# Altium footprint library Connector Footprints.PcbLib: 66 footprints (part 5 of 5)
Each footprint in its own frame and in the unit in brackets; x right, y up, seen from the top. Pads: shape width x height; smd on the part's side, far side on the other; paste and mask are expansions set on the pad; w line width, h text height; cw(c..) or ccw(c..) is an arc to the next point about the centre after c.
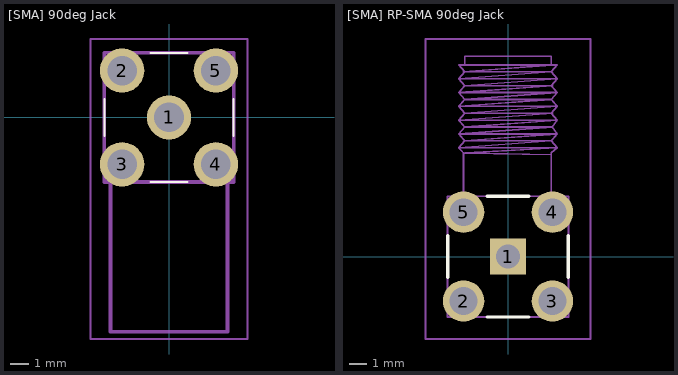
[diagram p4: the footprints below, top view; thin cyan lines are the x and y axes]

## [SMA] 90deg Jack [mm] "SMA-J-P-H-RA-TH1"
pads (5):
  round 2.4 hole 1.6: 1(0,0) 2(-2.54,2.54) 3(-2.54,-2.54) 4(2.54,-2.54) 5(2.54,2.54)
Top Overlay:
  lines w0.1: -3.5,-1 -3.5,1 ; -1,-3.5 1,-3.5 ; -1,3.5 1,3.5 ; 3.5,-1 3.5,1
Physical Drawing:
  lines w0.2: -3.165,-3.5 -3.165,-11.6 3.165,-11.6 3.165,-3.5 ; -3.5,-3.5 -3.5,3.5 3.5,3.5 3.5,-3.5 -3.5,-3.5
Part Outline:
  lines w0.1: -4.25,-12 -4.25,4.25 4.25,4.25 4.25,-12 -4.25,-12
3D body "SMA-J-P-H-RA-TH1.stp": height 9.85, standoff -3.95, extent -3.5,-11.48 3.5,3.62

## [SMA] RP-SMA 90deg Jack [mm]
pads (5):
  rect 2.1x2.1 hole 1.4: 1(0,0)
  round 2.4 hole 1.6: 2(-2.575,-2.575) 3(2.575,-2.575) 4(2.575,2.575) 5(-2.575,2.575)
Top Overlay:
  lines w0.2: -3.5,-1.2 -3.5,1.2 ; -1.2,-3.5 1.2,-3.5 ; -1.2,3.5 1.2,3.5 ; 3.5,-1.2 3.5,1.2
Physical Drawing:
  lines w0.1: -2.575,3.5 -2.575,6 -2.85,6.3 ; 2.5,3.5 2.5,6 2.85,6.3 ; 2.5,5.9 -2.5,6 2.85,6.3 ; -2.85,6.3 -2.5,6.7 ; -2.85,6.3 2.85,6.3 ; -2.85,6.3 2.5,6.7 ; -2.85,7.1 -2.5,6.7 ; -2.85,7.1 -2.5,7.5 ; -2.85,7.1 2.85,7.1 ; -2.85,7.1 2.575,7.5 ; -2.85,7.9 -2.5,7.5 ; -2.85,7.9 -2.5,8.3 ; -2.85,7.9 2.85,7.9 ; -2.85,7.9 2.575,8.3 -2.5,8.3 ; -2.85,8.7 -2.5,8.3 ; -2.85,8.7 -2.5,9.1 ; -2.85,8.7 2.85,8.7 ; -2.85,8.7 2.5,9.1 ; -2.85,9.5 -2.5,9.1 ; -2.85,9.5 -2.5,9.9 ; -2.85,9.5 2.85,9.5 ; -2.85,9.5 2.575,9.9 -2.5,9.9 ; -2.85,10.3 -2.5,9.9 ; -2.85,10.3 -2.5,10.7 -2.85,11.1 -2.5,11.1 ; -2.85,10.3 2.85,10.3 ; -2.85,10.3 2.5,10.7 ; -2.5,6.7 2.5,6.7 ; -2.5,6.7 2.85,7.1 ; -2.5,7.5 2.575,7.5 ; -2.5,7.5 2.85,7.9 ; -2.5,8.3 2.85,8.7 ; -2.5,9.1 2.5,9.1 ; -2.5,9.1 2.85,9.5 ; -2.5,9.9 2.85,10.3 ; -2.5,11.1 -2.5,11.6 2.5,11.6 2.5,11.1 2.85,11.1 2.5,10.7 ; -2.5,11.1 2.575,11.1 -2.575,10.7 2.5,10.7 ; 2.5,6.7 2.85,7.1 ; 2.5,6.7 2.85,6.3 ; 2.5,9.1 2.85,9.5 ; 2.5,9.1 2.85,8.7 ; 2.5,10.7 2.85,10.3 ; 2.575,7.5 2.85,7.9 ; 2.575,7.5 2.85,7.1 ; 2.85,7.9 2.5,8.3 2.85,8.7 ; 2.85,9.5 2.5,9.9 2.85,10.3 ; -3.5,-3.5 3.5,-3.5 3.5,3.5 -3.5,3.5 -3.5,-3.5
Part Outline:
  lines w0.1: -4.775,-4.775 4.775,-4.775 ; -4.775,-4.775 -4.775,12.6 ; -4.775,-4.775 4.775,-4.775 ; -4.775,-4.775 -4.775,12.6 ; -4.775,12.6 4.775,12.6 ; -4.775,12.6 4.775,12.6 ; 4.775,-4.775 4.775,12.6 ; 4.775,-4.775 4.775,12.6
3D body "PCB.RPSMAFRA.HT.stp": height 9.85, standoff -3.9, extent -3.505,-3.463 3.495,11.637